# Altium footprint library HAL_2.PcbLib: 23 footprints (part 1 of 2)
Each footprint in its own frame and in the unit in brackets; x right, y up, seen from the top. Pads: shape width x height; smd on the part's side, far side on the other; paste and mask are expansions set on the pad; w line width, h text height; cw(c..) or ccw(c..) is an arc to the next point about the centre after c.
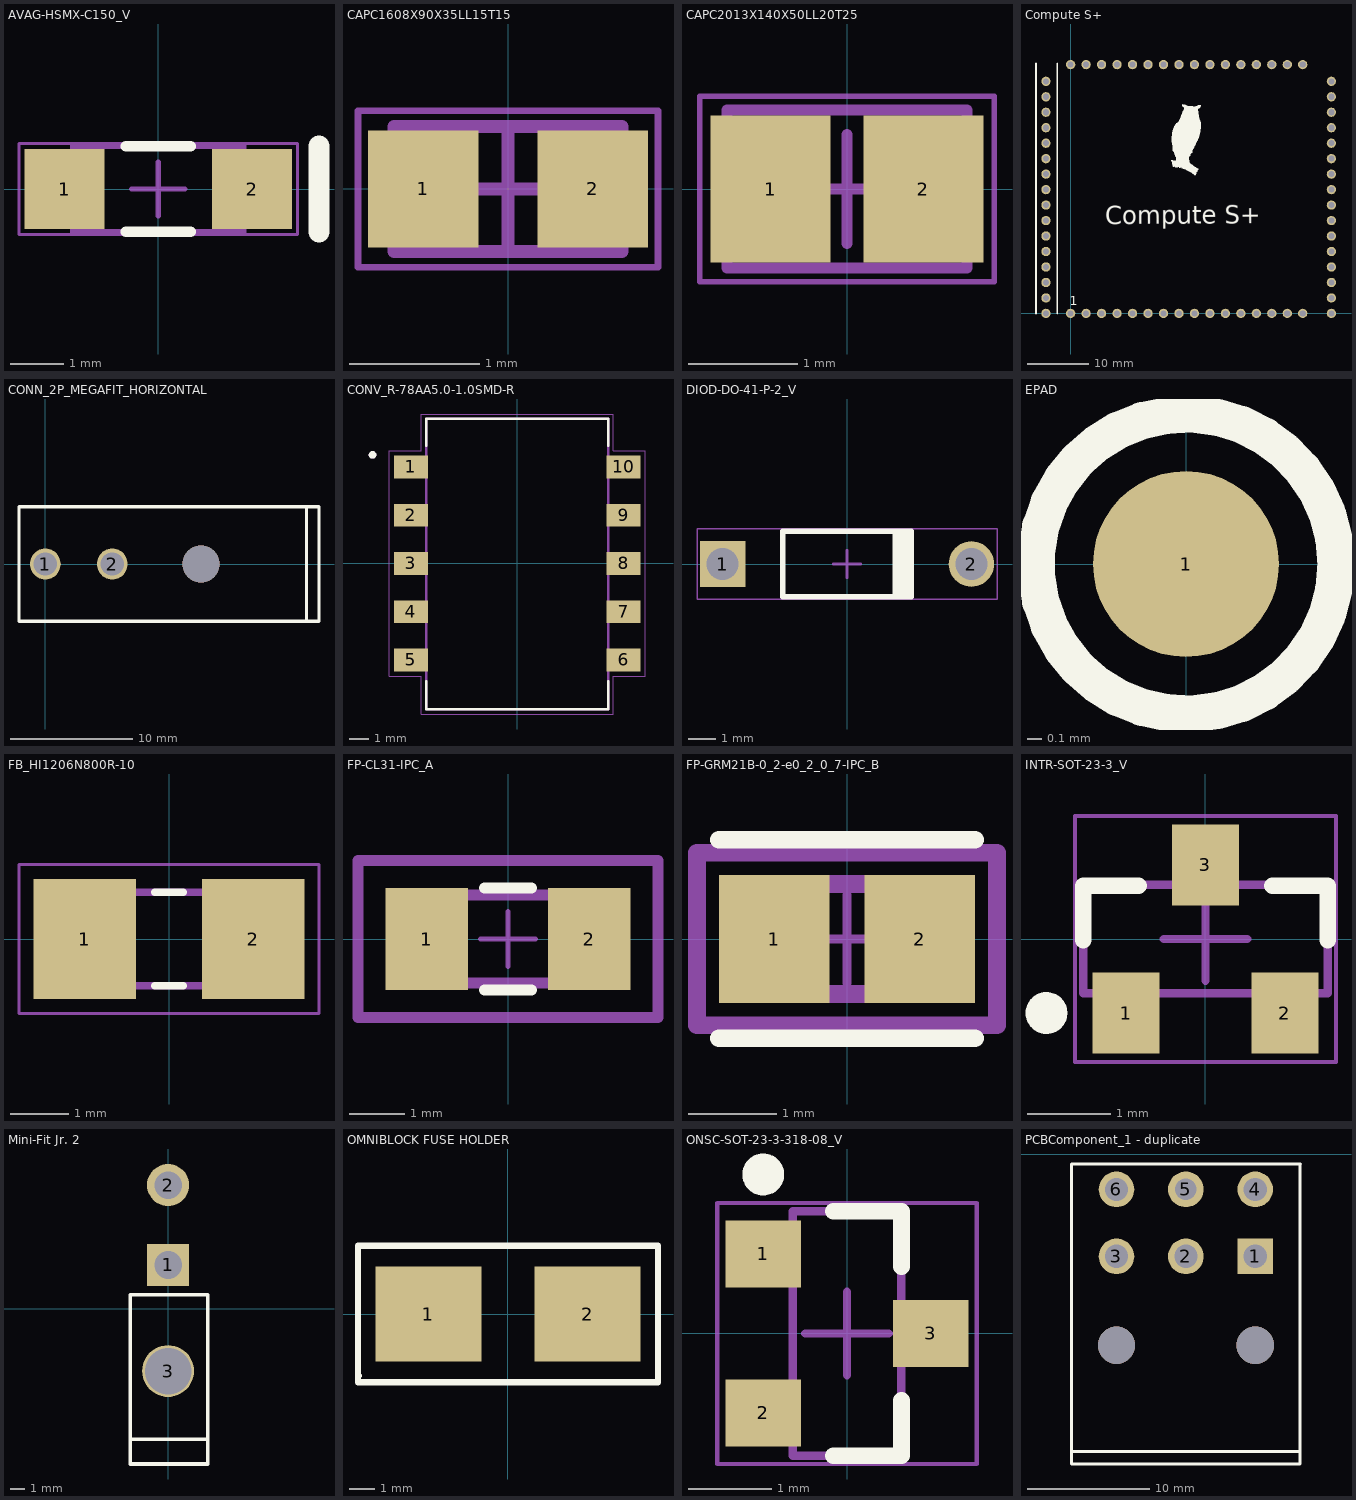
[diagram p0: the footprints below, top view; thin cyan lines are the x and y axes]

## AVAG-HSMX-C150_V [mm]
pads (2):
  rect 1.5x1.5 smd: 1(-1.75,0) 2(1.75,0)
Top Overlay:
  lines w0.2: -0.603,-0.8 0.603,-0.8 ; -0.603,0.8 0.603,0.8
  lines w0.4: 3,-0.8 3,0.8
Mechanical 13:
  lines w0.1: -1.6,-0.8 1.6,-0.8 1.6,0.8 -1.6,0.8 -1.6,-0.8
Mechanical 15:
  lines w0.05: -2.6,-0.85 2.6,-0.85 2.6,0.85 -2.6,0.85 -2.6,-0.85
  lines w0.1: -0.5,0 0.5,0 ; 0,-0.5 0,0.5
3D body: height 1.1, standoff 0.5, extent -0.999,-0.799 0.999,0.799
3D body: height 0.5, standoff 0, extent -1.599,-0.799 1.599,0.799

## CAPC1608X90X35LL15T15 [mm]
pads (2):
  rect 0.85x0.9 smd: 1(-0.65,0) 2(0.65,0)
Mechanical 13:
  lines w0.1: -0.875,-0.48 -0.875,0.48 0.875,0.48 0.875,-0.48 -0.875,-0.48
Mechanical 15:
  lines w0.05: -1.15,-0.6 -1.15,0.6 1.15,0.6 1.15,-0.6 -1.15,-0.6
  lines w0.1: -0.48,0 0.48,0 ; 0,-0.48 0,0.48
3D body: height 0.9, standoff 0, extent -0.525,-0.48 0.525,0.48
3D body: height 0.9, standoff 0, extent -0.875,-0.48 -0.525,0.48
3D body: height 0.9, standoff 0, extent 0.525,-0.48 0.875,0.48

## CAPC2013X140X50LL20T25 [mm]
pads (2):
  rect 1.1x1.35 smd: 1(-0.7,0) 2(0.7,0)
Mechanical 13:
  lines w0.1: -1.1,-0.725 -1.1,0.725 1.1,0.725 1.1,-0.725 -1.1,-0.725
Mechanical 15:
  lines w0.05: -1.35,-0.85 -1.35,0.85 1.35,0.85 1.35,-0.85 -1.35,-0.85
  lines w0.1: -0.5,0 0.5,0 ; 0,-0.5 0,0.5
3D body: height 1.4, standoff 0, extent -0.6,-0.725 0.6,0.725
3D body: height 1.4, standoff 0, extent -1.1,-0.725 -0.6,0.725
3D body: height 1.4, standoff 0, extent 0.6,-0.725 1.1,0.725

## Compute S+ [mil]
pads (64):
  round 60 hole 39.37: CANH(1000,1607.95) CANL(1100,1607.95) GND(-160,900) GND(100,1607.95) GND(600,0) GND(900,1607.95) GND(1685,600) GND(1685,1400) PA00(-160,1500) PA01(-160,1400) PA02(-160,1300) PA03(-160,1200) PA04(-160,300) PA05(-160,200) PA06(-160,100) PA07(-160,0) PA08(0,0) PA09(100,0) PA10(200,0) PA11(300,0) PA12(1200,0) PA13(1300,0) PA14(1400,0) PA15(1500,0) PA16(1685,0) PA17(1685,100) PA18(1685,200) PA19(1685,300) PA20(1685,800) PA21(1685,900) PA22(1685,1000) PA23(1685,1100) PA24(1685,1200) PA25(1685,1300) PA27(1500,1607.95) PA28(1400,1607.95) PA30(1300,1607.95) PA31(1200,1607.95) PB00(500,1607.95) PB01(400,1607.95) PB02(300,1607.95) PB03(200,1607.95) PB04(-160,1100) PB05(-160,1000) PB06(-160,700) PB07(-160,600) PB08(-160,500) PB09(-160,400) PB10(400,0) PB11(500,0) PB12(800,0) PB13(900,0) PB14(1000,0) PB15(1100,0) PB16(1685,400) PB17(1685,500) PB30(700,1607.95) PB31(600,1607.95) VDD(-160,800) VDD(0,1607.95) VDD(700,0) VDD(800,1607.95) VDD(1685,700) VDD(1685,1500)
Top Overlay:
  drawing of 3 lines, arcs and shapes, not listed
  text "1" at -7.09,51.57 h60
  text "Compute S+" at 222.44,538.19 h196.85
3D body "V2_SP.step": height 549.33, standoff 19.68, extent -261.2,-83.86 1773.8,1726.14

## CONN_2P_MEGAFIT_HORIZONTAL [mm]
pads (2):
  round 2.54 hole 1.905: 1(0,0) 2(5.5,0)
via 12.8,0 diameter 3.05 hole 3.05
Top Overlay:
  lines w0.254: -2.159,-0.029 -2.159,-4.699 6.541,-4.699 ; -2.159,0 -2.159,4.67 ; -2.159,4.699 6.541,4.699 ; 6.477,-4.699 15.177,-4.699 ; 6.477,4.699 15.177,4.699 ; 12.7,-4.699 21.4,-4.699 ; 12.7,4.699 21.4,4.699 ; 21.463,-4.699 22.479,-4.699 22.479,4.699 21.463,4.699 ; 21.463,-4.67 21.463,0 21.463,4.67
3D body "768250002.stp": height 14.06, standoff -4.07, extent -0.635,-4.158 21.327,4.191

## CONV_R-78AA5.0-1.0SMD-R [mm]
pads (10):
  rect 1.8x1.2 smd: 1(-5.6,5.08) 2(-5.6,2.54) 3(-5.6,0) 4(-5.6,-2.54) 5(-5.6,-5.08) 6(5.6,-5.08) 7(5.6,-2.54) 8(5.6,0) 9(5.6,2.54) 10(5.6,5.08)
Top Overlay:
  circle w0.2: c-7.62,5.715 r0.1
  lines w0.127: -4.8,-6.2 -4.8,-7.68 4.8,-7.68 4.8,-6.2 ; -4.8,6.2 -4.8,7.62 4.8,7.62 4.8,6.2
Mechanical 13:
  circle w0.2: c-7.62,5.715 r0.1
  lines w0.127: -4.8,-7.68 4.8,-7.68 4.8,7.62 -4.8,7.62 -4.8,-7.68
Mechanical 15:
  lines w0.05: -6.75,-5.93 -5.05,-5.93 -5.05,-7.93 5.05,-7.93 5.05,-5.93 6.75,-5.93 6.75,5.93 5.05,5.93 5.05,7.87 -5.05,7.87 -5.05,5.93 -6.75,5.93 -6.75,-5.93

## DIOD-DO-41-P-2_V [mm]
pads (2):
  rect 1.65x1.65 hole 1.15: 1(-4.5,0)
  round 1.65 hole 1.15: 2(4.5,0)
Top Overlay:
  rectangle: 1.651,-1.18 2.317,1.18
  lines w0.2: -2.317,-1.18 2.317,-1.18 2.317,1.18 -2.317,1.18 -2.317,-1.18
Mechanical 13:
  lines w0.1: -2.317,-1.18 -2.317,1.18 2.317,1.18 2.317,-1.18 -2.317,-1.18
Mechanical 15:
  lines w0.05: -5.425,-1.28 5.425,-1.28 5.425,1.28 -5.425,1.28 -5.425,-1.28
  lines w0.1: -0.5,0 0.5,0 ; 0,-0.5 0,0.5
3D body: height 1.18, standoff -2, extent -4.929,-0.431 -4.068,0.431
3D body: height 1.61, standoff 0.75, extent -4.929,-0.43 -4.069,0.43
3D body: height 1.61, standoff 0.75, extent -4.499,-0.431 -2.317,0.431
3D body: height 1.61, standoff 0.75, extent 2.317,-0.431 4.499,0.431
3D body: height 1.61, standoff 0.75, extent 4.069,-0.43 4.929,0.43
3D body: height 1.18, standoff -2, extent 4.068,-0.431 4.929,0.431
3D body: height 2.35, standoff 0, extent -2.317,-1.18 2.317,1.175

## EPAD [mil]
pads (1):
  round 50 smd: 1(0,0)
Top Overlay:
  circle w10: c0,0 r40.31

## FB_HI1206N800R-10 [mm]
pads (2):
  rect 1.76x2.06 smd: 1(-1.445,0) 2(1.445,0)
Top Overlay:
  lines w0.127: -0.245,-0.8 0.245,-0.8 ; -0.245,0.8 0.245,0.8
Mechanical 13:
  lines w0.127: -1.6,-0.8 1.6,-0.8 1.6,0.8 -1.6,0.8 -1.6,-0.8
Mechanical 15:
  lines w0.05: -2.575,-1.28 2.575,-1.28 2.575,1.28 -2.575,1.28 -2.575,-1.28

## FP-CL31-IPC_A [mil]
pads (2):
  rect 59.27x73.16 smd paste+0 mask+0: 1(-58.12,0) 2(58.12,0)
Top Overlay:
  lines w7.87: -16.68,-36.58 16.68,-36.58 ; -16.68,36.58 16.68,36.58
Top 3D Body:
  lines w7.87: -62.99,-31.5 62.99,-31.5 62.99,31.5 -62.99,31.5 -62.99,-31.5
Top Courtyard:
  lines w7.87: -107.45,-56.26 107.45,-56.26 107.45,56.26 -107.45,56.26 -107.45,-56.26
Top Assembly:
  lines w7.87: -107.45,-56.26 107.45,-56.26 107.45,56.26 -107.45,56.26 -107.45,-56.26
  text ".Designator" at 0,7.4 h39.37
Top Component Center:
  lines w3.94: -19.68,0 19.68,0 ; 0,-19.68 0,19.68
3D body "Cap_Samsung_CL31B105KOFNNNE_eec.STEP": height 10, standoff 0, extent -107.45,-56.26 107.45,56.26

## FP-GRM21B-0_2-e0_2_0_7-IPC_B [mil]
pads (2):
  rect 49.4x57.33 smd paste+0 mask+0: 1(-32.51,0) 2(32.51,0)
Top Overlay:
  lines w7.87: -57.21,-44.41 57.21,-44.41 ; -57.21,44.41 57.21,44.41
Top 3D Body:
  lines w7.87: -39.37,-24.61 39.37,-24.61 39.37,24.61 -39.37,24.61 -39.37,-24.61
Top Courtyard:
  lines w7.87: -67.05,-38.51 67.05,-38.51 67.05,38.51 -67.05,38.51 -67.05,-38.51
Top Assembly:
  lines w7.87: -67.05,-38.51 67.05,-38.51 67.05,38.51 -67.05,38.51 -67.05,-38.51
  text ".Designator" at 0,7.4 h39.37
Top Component Center:
  lines w3.94: -19.68,0 19.68,0 ; 0,-19.68 0,19.68
3D body "Cap_Murata_GRM21BC71C106KE11L_eec.STEP": height 10, standoff 0, extent -67.05,-38.51 67.05,38.51

## INTR-SOT-23-3_V [mm]
pads (3):
  rect 0.802x0.972 smd: 1(-0.95,-0.885) 2(0.95,-0.885) 3(0,0.885)
Top Overlay:
  circle w0.25: c-1.901,-0.885 r0.125
  lines w0.2: -1.46,-0.014 -1.46,0.621 ; -1.46,0.635 -0.801,0.635 ; 0.801,0.635 1.46,0.635 ; 1.46,-0.014 1.46,0.621
Mechanical 13:
  lines w0.1: -1.46,-0.65 -1.46,0.65 1.46,0.65 1.46,-0.65 -1.46,-0.65
Mechanical 15:
  lines w0.05: -1.56,-1.471 -1.56,1.471 1.56,1.471 1.56,-1.471 -1.56,-1.471
  lines w0.1: -0.5,0 0.5,0 ; 0,-0.5 0,0.5
3D body: height 1.12, standoff 0.01, extent -1.46,-0.65 1.46,0.65

## Mini-Fit Jr. 2 [mm]
pads (3):
  rect 2.9x2.9 hole 1.9: 1(0,3)
  round 2.9 hole 1.9: 2(0,8.5)
  round 3.578 hole 3.2: 3(0,-4.3)
Top Overlay:
  lines w0.254: -2.6,-9 2.625,-9 ; -2.6,0.95 -2.6,-10.7 2.7,-10.7 ; -2.575,0.95 2.725,0.95 2.725,-10.7
3D body "039300020.stp": height 11.4, standoff -3.6, extent -2.7,-10.9 3.1,9.035

## OMNIBLOCK FUSE HOLDER [mm]
pads (2):
  rect 4.24x3.81 smd: 1(-3.185,0) 2(3.185,0)
Top Overlay:
  lines w0.254: -6,-2.45 -5.975,-2.475 ; -6,-2.725 -6,2.725 6,2.725 6,-2.725 -6,-2.725
3D body "OMNI_BLOK_FUSE.step": height 3.81, standoff 0, extent -4.915,-2.515 4.915,2.515

## ONSC-SOT-23-3-318-08_V [mm]
pads (3):
  rect 0.9x0.8 smd: 1(-1,0.95) 2(-1,-0.95) 3(1,0)
Top Overlay:
  circle w0.25: c-1,1.9 r0.125
  lines w0.2: -0.165,-1.46 0.65,-1.46 0.65,-0.8 ; -0.165,1.46 0.65,1.46 0.65,0.8
Mechanical 13:
  lines w0.1: -0.65,-1.46 -0.65,1.46 0.65,1.46 0.65,-1.46 -0.65,-1.46
Mechanical 15:
  lines w0.05: -1.55,-1.56 -1.55,1.56 1.55,1.56 1.55,-1.56 -1.55,-1.56
  lines w0.1: -0.5,0 0.5,0 ; 0,-0.5 0,0.5
3D body: height 1.11, standoff 0.01, extent -0.65,-1.46 0.65,1.46

## PCBComponent_1 - duplicate [mil]
pads (6):
  rect 115x115 hole 75: 1(-333.46,-330.31)
  round 115 hole 75: 2(-557.87,-330.31) 3(-782.28,-330.31) 4(-333.46,-113.78) 6(-782.28,-113.78)
  round 115 hole 70: 5(-557.87,-113.78)
via -782.68,-617.72 diameter 120.08 hole 120.08
via -333.46,-617.72 diameter 120.08 hole 120.08
Top Overlay:
  lines w10: -927.46,-961.78 -188.46,-961.78 ; -188.46,-961.78 -188.46,-32.78 -187.46,-31.78 -927.46,-31.78 -927.46,-1001.78 -188.46,-1001.78 -188.46,-961.78
3D body "768250006.stp": height 594.02, standoff -119.93, extent -908.27,-956.3 -209.05,-91.66